# Altium integrated library FT2232HL.Library.IntLib: 1 symbol
Pins are listed as number, name and electrical type; pins without a type are passive.

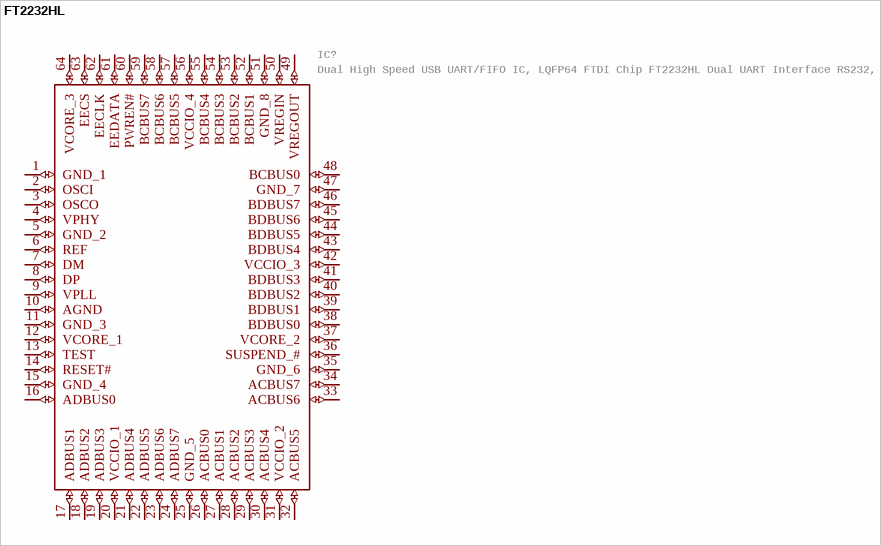
[diagram p0: symbol FT2232HL]

## FT2232HL
designator IC?, comment Dual High Speed USB UART/FIFO IC, LQFP64 FTDI Chip FT2232HL Dual UART Interface RS232, RS422, RS485 480Mbit/s, 64-Pin, LQFP   Source:  Datasheet
GateName_1: G$1; SymbolName_1: FT2232HL; LibraryName: FT2232HL; DeviceSetName: FT2232HL; Package: QFP50P1200X1200X160-64N; Manufacturer_Name: FTDI Chip; Manufacturer_Part_Number: FT2232HL; Description: Dual High Speed USB UART/FIFO IC, LQFP64 FTDI Chip FT2232HL Dual UART Interface RS232, RS422, RS485 480Mbit/s, 64-Pin, LQFP; Height: 1.6mm
footprint QFP50P1200X1200X160-64N
pins: 1 GND_1 (io), 2 OSCI (io), 3 OSCO (io), 4 VPHY (io), 5 GND_2 (io), 6 REF (io), 7 DM (io), 8 DP (io), 9 VPLL (io), 10 AGND (io), 11 GND_3 (io), 12 VCORE_1 (io), 13 TEST (io), 14 RESET# (io), 15 GND_4 (io), 16 ADBUS0 (io), 17 ADBUS1 (io), 18 ADBUS2 (io), 19 ADBUS3 (io), 20 VCCIO_1 (io), 21 ADBUS4 (io), 22 ADBUS5 (io), 23 ADBUS6 (io), 24 ADBUS7 (io), 25 GND_5 (io), 26 ACBUS0 (io), 27 ACBUS1 (io), 28 ACBUS2 (io), 29 ACBUS3 (io), 30 ACBUS4 (io), 31 VCCIO_2 (io), 32 ACBUS5 (io), 33 ACBUS6 (io), 34 ACBUS7 (io), 35 GND_6 (io), 36 SUSPEND_# (io), 37 VCORE_2 (io), 38 BDBUS0 (io), 39 BDBUS1 (io), 40 BDBUS2 (io), 41 BDBUS3 (io), 42 VCCIO_3 (io), 43 BDBUS4 (io), 44 BDBUS5 (io), 45 BDBUS6 (io), 46 BDBUS7 (io), 47 GND_7 (io), 48 BCBUS0 (io), 49 VREGOUT (io), 50 VREGIN (io), 51 GND_8 (io), 52 BCBUS1 (io), 53 BCBUS2 (io), 54 BCBUS3 (io), 55 BCBUS4 (io), 56 VCCIO_4 (io), 57 BCBUS5 (io), 58 BCBUS6 (io), 59 BCBUS7 (io), 60 PWREN# (io), 61 EEDATA (io), 62 EECLK (io), 63 EECS (io), 64 VCORE_3 (io)